# EAGLE library part 74HC595 (library drag-semiconductors)
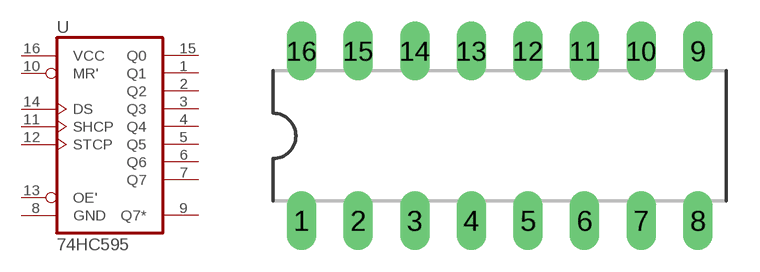
[diagram p7: symbol with the pads of DIP16; footprint DIP16]

Designator prefix -

## 74HC595  [DIP16]
1  Q1  hiz
2  Q2  hiz
3  Q3  hiz
4  Q4  hiz
5  Q5  hiz
6  Q6  hiz
7  Q7  hiz
8  GND
9  Q7*  hiz
10  MR'  in
11  SHCP  in
12  STCP  in
13  OE'  in
14  DS  in
15  Q0  hiz
16  VCC  in

## Footprint DIP16 (pad centres in mm)
drill 0.813 long: 1 -8.89,-3.81; 2 -6.35,-3.81; 3 -3.81,-3.81; 4 -1.27,-3.81; 5 1.27,-3.81; 6 3.81,-3.81; 7 6.35,-3.81; 8 8.89,-3.81; 9 8.89,3.81; 10 6.35,3.81; 11 3.81,3.81; 12 1.27,3.81; 13 -1.27,3.81; 14 -3.81,3.81; 15 -6.35,3.81; 16 -8.89,3.81